# Altium integrated library Resistors_Misc.IntLib: 1 symbol
Pins are listed as number, name and electrical type; pins without a type are passive.

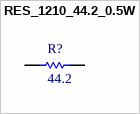
[diagram p0: symbol RES_1210_44.2_0.5W]

## RES_1210_44.2_0.5W
designator R?, comment 44.2
Resistor, 1210, 1/2W, 44.2 ohm; Manufacturer: Panasonic Electronic Components; Manufacturer Part Number: ERJ-14NF44R2U; Description: RES 44.2 OHM 1/2W 1% 1210 SMD; Tolerance: ±1%; Power (Watts): 0.5W, 1/2W; Temperature Coefficient: ±100ppm/°C; Supplier 1: Digi-Key; RoHS: Request Inventory Verification; Category: Resistors; Stock 1: 25145; Pricing 1: 1=0.51, 50=0.203, 100=0.1566, 250=0.1218, 500=0.08584, 1000=0.06264 (USD); Packaging: Cut Tape (CT); Resistance (Ohms): 44.2; Composition: Thick Film; Features: -; Package / Case: 1210 (3225 Metric); Supplier Device Package: 1210; Size / Dimension: 0.126" L x 0.098" W (3.20mm x 2.50mm); Height: 0.028" (0.70mm); Number of Terminations: 2; ComponentLink1URL: http://industrial.panasonic.com/www-cgi/jvcr13pz.cgi?E+PZ+3+AOA0002+ERJ14NF44R2U+7+WW; ComponentLink1Description: http://industrial.panasonic.com/www-cgi/jvcr13pz.cgi?E+PZ+3+AOA0002+ERJ14NF44R2U+7+WW; Supplier Part Number 1: P44.2AACT-ND
footprint RES1210(3225) (Chip Resistor, 2-Leads, Body 3.2x2.5mm, IPC Medium Density)
pins: 1, 2